# EAGLE library part N2510-6V0C-RB-WD (library con-custom)
Header Source: Datasheet <http://componentsearchengine.com/Datasheets/1/N2510-6V0C-RB-WD.pdf>
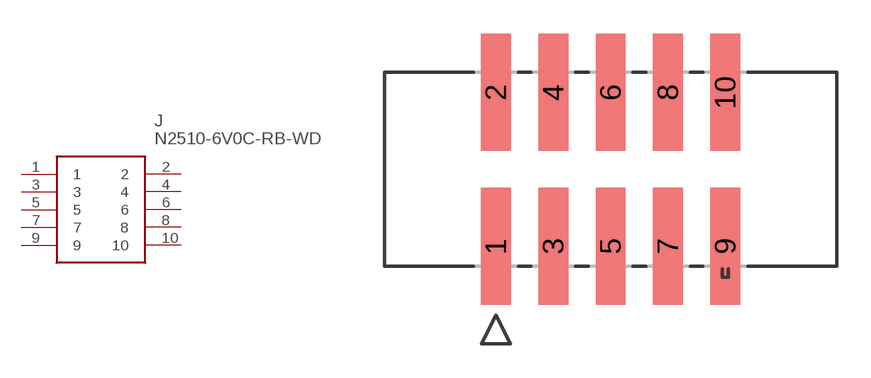
[diagram p2: symbol with the pads of 3M_N2510-6V0C-RB-WD; footprint 3M_N2510-6V0C-RB-WD]

Designator prefix J

## N2510-6V0C-RB-WD (ARROW_PART_NUMBER: N2510-6V0C-RB-WD; ARROW_PRICE-STOCK: https://www.arrow.com/en/products/n2510-6v0c-rb-wd/3m; DESCRIPTION: Header; HEIGHT: mm; MANUFACTURER_NAME: 3M; MANUFACTURER_PART_NUMBER: N2510-6V0C-RB-WD; MOUSER_PART_NUMBER: 517-N2510-6V0C-RB-WD; MOUSER_PRICE-STOCK: https://www.mouser.co.uk/ProductDetail/3M-Electronic-Solutions-Division/N2510-6V0C-RB-WD?qs=Lbk6Md3wKLsE2pBv0gkdgA%3D%3D)  [3M_N2510-6V0C-RB-WD]
1  1
2  2
3  3
4  4
5  5
6  6
7  7
8  8
9  9
10  10

## Footprint 3M_N2510-6V0C-RB-WD (pad centres in mm)
3M_N2510-6V0C-RB-WD
smd 1.321 x 5.182: 1 -5.08,-3.404; 2 -5.08,3.404; 3 -2.54,-3.404; 4 -2.54,3.404; 5 0,-3.404; 6 0,3.404; 7 2.54,-3.404; 8 2.54,3.404; 9 5.08,-3.404; 10 5.08,3.404